# Altium footprint library Package_DIP.PcbLib: 281 footprints (part 12 of 18)
Each footprint in its own frame and in the unit in brackets; x right, y up, seen from the top. Pads: shape width x height; smd on the part's side, far side on the other; paste and mask are expansions set on the pad; w line width, h text height; cw(c..) or ccw(c..) is an arc to the next point about the centre after c.
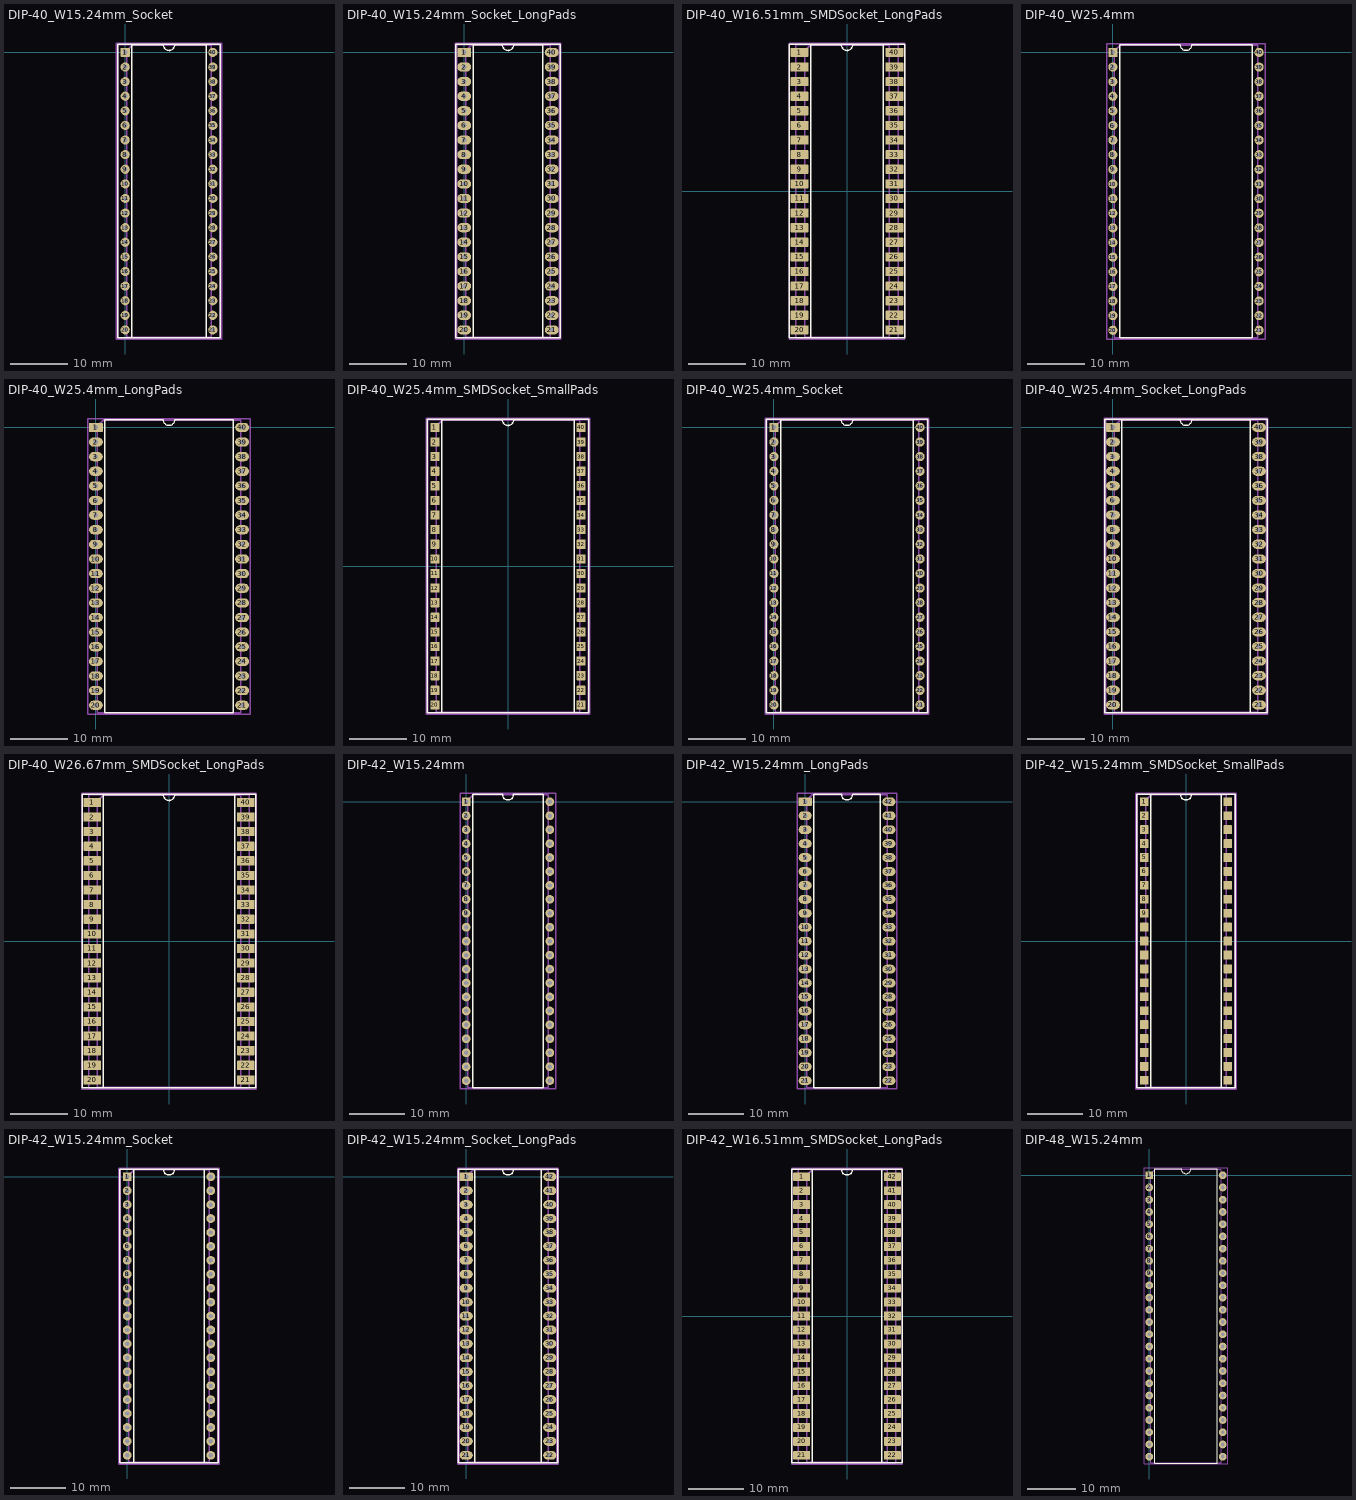
[diagram p11: the footprints below, top view; thin cyan lines are the x and y axes]

## DIP-40_W15.24mm_Socket [mm]
pads (40):
  rrect16% 1.6x1.6 hole 0.8: 1(0,0)
  round 1.6 hole 0.8: 2(0,-2.54) 3(0,-5.08) 4(0,-7.62) 5(0,-10.16) 6(0,-12.7) 7(0,-15.24) 8(0,-17.78) 9(0,-20.32) 10(0,-22.86) 11(0,-25.4) 12(0,-27.94) 13(0,-30.48) 14(0,-33.02) 15(0,-35.56) 16(0,-38.1) 17(0,-40.64) 18(0,-43.18) 19(0,-45.72) 20(0,-48.26) 21(15.24,-48.26) 22(15.24,-45.72) 23(15.24,-43.18) 24(15.24,-40.64) 25(15.24,-38.1) 26(15.24,-35.56) 27(15.24,-33.02) 28(15.24,-30.48) 29(15.24,-27.94) 30(15.24,-25.4) 31(15.24,-22.86) 32(15.24,-20.32) 33(15.24,-17.78) 34(15.24,-15.24) 35(15.24,-12.7) 36(15.24,-10.16) 37(15.24,-7.62) 38(15.24,-5.08) 39(15.24,-2.54) 40(15.24,0)
F.SilkS:
  lines w0.254: -1.33,-49.65 16.57,-49.65 16.57,1.39 -1.33,1.39 -1.33,-49.65 ; 1.16,-49.59 14.08,-49.59 14.08,1.33 8.62,1.33 cw(c7.62,1.33) 6.62,1.33 1.16,1.33 1.16,-49.59
Top Assembly:
  lines w0.254: -1.27,-49.59 16.51,-49.59 16.51,1.33 -1.27,1.33 -1.27,-49.59 ; 0.255,-49.53 14.985,-49.53 14.985,1.27 1.255,1.27 0.255,0.27 0.255,-49.53
  text "'.Designator'" at 8.46,-28.177 h1
Top Courtyard:
  lines w0.254: -1.53,-49.84 16.77,-49.84 16.77,1.59 -1.53,1.59 -1.53,-49.84
Top Designator:
  text ".Designator" at 0.002,-24.633 h1.52

## DIP-40_W15.24mm_Socket_LongPads [mm]
pads (40):
  rrect16% 2.4x1.6 hole 0.8: 1(0,0)
  rrect100% 2.4x1.6 hole 0.8: 2(0,-2.54) 3(0,-5.08) 4(0,-7.62) 5(0,-10.16) 6(0,-12.7) 7(0,-15.24) 8(0,-17.78) 9(0,-20.32) 10(0,-22.86) 11(0,-25.4) 12(0,-27.94) 13(0,-30.48) 14(0,-33.02) 15(0,-35.56) 16(0,-38.1) 17(0,-40.64) 18(0,-43.18) 19(0,-45.72) 20(0,-48.26) 21(15.24,-48.26) 22(15.24,-45.72) 23(15.24,-43.18) 24(15.24,-40.64) 25(15.24,-38.1) 26(15.24,-35.56) 27(15.24,-33.02) 28(15.24,-30.48) 29(15.24,-27.94) 30(15.24,-25.4) 31(15.24,-22.86) 32(15.24,-20.32) 33(15.24,-17.78) 34(15.24,-15.24) 35(15.24,-12.7) 36(15.24,-10.16) 37(15.24,-7.62) 38(15.24,-5.08) 39(15.24,-2.54) 40(15.24,0)
F.SilkS:
  lines w0.254: -1.44,-49.65 16.68,-49.65 16.68,1.39 -1.44,1.39 -1.44,-49.65 ; 1.56,-49.59 13.68,-49.59 13.68,1.33 8.62,1.33 cw(c7.62,1.33) 6.62,1.33 1.56,1.33 1.56,-49.59
Top Assembly:
  lines w0.254: -1.27,-49.59 16.51,-49.59 16.51,1.33 -1.27,1.33 -1.27,-49.59 ; 0.255,-49.53 14.985,-49.53 14.985,1.27 1.255,1.27 0.255,0.27 0.255,-49.53
  text "'.Designator'" at 8.46,-28.177 h1
Top Courtyard:
  lines w0.254: -1.53,-49.84 16.77,-49.84 16.77,1.59 -1.53,1.59 -1.53,-49.84
Top Designator:
  text ".Designator" at 0.002,-24.633 h1.52

## DIP-40_W16.51mm_SMDSocket_LongPads [mm]
pads (40):
  rrect16% 3.1x1.6 smd: 1(-8.255,24.13) 2(-8.255,21.59) 3(-8.255,19.05) 4(-8.255,16.51) 5(-8.255,13.97) 6(-8.255,11.43) 7(-8.255,8.89) 8(-8.255,6.35) 9(-8.255,3.81) 10(-8.255,1.27) 11(-8.255,-1.27) 12(-8.255,-3.81) 13(-8.255,-6.35) 14(-8.255,-8.89) 15(-8.255,-11.43) 16(-8.255,-13.97) 17(-8.255,-16.51) 18(-8.255,-19.05) 19(-8.255,-21.59) 20(-8.255,-24.13) 21(8.255,-24.13) 22(8.255,-21.59) 23(8.255,-19.05) 24(8.255,-16.51) 25(8.255,-13.97) 26(8.255,-11.43) 27(8.255,-8.89) 28(8.255,-6.35) 29(8.255,-3.81) 30(8.255,-1.27) 31(8.255,1.27) 32(8.255,3.81) 33(8.255,6.35) 34(8.255,8.89) 35(8.255,11.43) 36(8.255,13.97) 37(8.255,16.51) 38(8.255,19.05) 39(8.255,21.59) 40(8.255,24.13)
F.SilkS:
  lines w0.254: -10.045,-25.52 10.045,-25.52 10.045,25.52 -10.045,25.52 -10.045,-25.52 ; -6.345,-25.46 6.345,-25.46 6.345,25.46 1,25.46 cw(c0,25.46) -1,25.46 -6.345,25.46 -6.345,-25.46
Top Assembly:
  lines w0.254: -8.89,-25.46 8.89,-25.46 8.89,25.46 -8.89,25.46 -8.89,-25.46 ; -7.365,-25.4 7.365,-25.4 7.365,25.4 -6.365,25.4 -7.365,24.4 -7.365,-25.4
  text "'.Designator'" at 0.84,-4.047 h1
Top Courtyard:
  lines w0.254: -10.06,-25.71 10.06,-25.71 10.06,25.71 -10.06,25.71 -10.06,-25.71
Top Designator:
  text ".Designator" at -7.618,-0.508 h1.52

## DIP-40_W25.4mm [mm]
pads (40):
  rrect16% 1.6x1.6 hole 0.8: 1(0,0)
  round 1.6 hole 0.8: 2(0,-2.54) 3(0,-5.08) 4(0,-7.62) 5(0,-10.16) 6(0,-12.7) 7(0,-15.24) 8(0,-17.78) 9(0,-20.32) 10(0,-22.86) 11(0,-25.4) 12(0,-27.94) 13(0,-30.48) 14(0,-33.02) 15(0,-35.56) 16(0,-38.1) 17(0,-40.64) 18(0,-43.18) 19(0,-45.72) 20(0,-48.26) 21(25.4,-48.26) 22(25.4,-45.72) 23(25.4,-43.18) 24(25.4,-40.64) 25(25.4,-38.1) 26(25.4,-35.56) 27(25.4,-33.02) 28(25.4,-30.48) 29(25.4,-27.94) 30(25.4,-25.4) 31(25.4,-22.86) 32(25.4,-20.32) 33(25.4,-17.78) 34(25.4,-15.24) 35(25.4,-12.7) 36(25.4,-10.16) 37(25.4,-7.62) 38(25.4,-5.08) 39(25.4,-2.54) 40(25.4,0)
F.SilkS:
  lines w0.254: 1.16,-49.59 24.24,-49.59 24.24,1.33 13.7,1.33 cw(c12.7,1.33) 11.7,1.33 1.16,1.33 1.16,-49.59
Top Assembly:
  lines w0.254: 0.255,-49.53 25.145,-49.53 25.145,1.27 1.255,1.27 0.255,0.27 0.255,-49.53
  text "'.Designator'" at 13.54,-28.177 h1
Top Courtyard:
  lines w0.254: -1.06,-49.78 26.45,-49.78 26.45,1.53 -1.06,1.53 -1.06,-49.78
Top Designator:
  text ".Designator" at 5.077,-24.633 h1.52

## DIP-40_W25.4mm_LongPads [mm]
pads (40):
  rrect16% 2.4x1.6 hole 0.8: 1(0,0)
  rrect100% 2.4x1.6 hole 0.8: 2(0,-2.54) 3(0,-5.08) 4(0,-7.62) 5(0,-10.16) 6(0,-12.7) 7(0,-15.24) 8(0,-17.78) 9(0,-20.32) 10(0,-22.86) 11(0,-25.4) 12(0,-27.94) 13(0,-30.48) 14(0,-33.02) 15(0,-35.56) 16(0,-38.1) 17(0,-40.64) 18(0,-43.18) 19(0,-45.72) 20(0,-48.26) 21(25.4,-48.26) 22(25.4,-45.72) 23(25.4,-43.18) 24(25.4,-40.64) 25(25.4,-38.1) 26(25.4,-35.56) 27(25.4,-33.02) 28(25.4,-30.48) 29(25.4,-27.94) 30(25.4,-25.4) 31(25.4,-22.86) 32(25.4,-20.32) 33(25.4,-17.78) 34(25.4,-15.24) 35(25.4,-12.7) 36(25.4,-10.16) 37(25.4,-7.62) 38(25.4,-5.08) 39(25.4,-2.54) 40(25.4,0)
F.SilkS:
  lines w0.254: 1.56,-49.59 23.84,-49.59 23.84,1.33 13.7,1.33 cw(c12.7,1.33) 11.7,1.33 1.56,1.33 1.56,-49.59
Top Assembly:
  lines w0.254: 0.255,-49.53 25.145,-49.53 25.145,1.27 1.255,1.27 0.255,0.27 0.255,-49.53
  text "'.Designator'" at 13.54,-28.177 h1
Top Courtyard:
  lines w0.254: -1.45,-49.78 26.85,-49.78 26.85,1.53 -1.45,1.53 -1.45,-49.78
Top Designator:
  text ".Designator" at 5.082,-24.633 h1.52

## DIP-40_W25.4mm_SMDSocket_SmallPads [mm]
pads (40):
  rrect16% 1.6x1.6 smd: 1(-12.7,24.13) 2(-12.7,21.59) 3(-12.7,19.05) 4(-12.7,16.51) 5(-12.7,13.97) 6(-12.7,11.43) 7(-12.7,8.89) 8(-12.7,6.35) 9(-12.7,3.81) 10(-12.7,1.27) 11(-12.7,-1.27) 12(-12.7,-3.81) 13(-12.7,-6.35) 14(-12.7,-8.89) 15(-12.7,-11.43) 16(-12.7,-13.97) 17(-12.7,-16.51) 18(-12.7,-19.05) 19(-12.7,-21.59) 20(-12.7,-24.13) 21(12.7,-24.13) 22(12.7,-21.59) 23(12.7,-19.05) 24(12.7,-16.51) 25(12.7,-13.97) 26(12.7,-11.43) 27(12.7,-8.89) 28(12.7,-6.35) 29(12.7,-3.81) 30(12.7,-1.27) 31(12.7,1.27) 32(12.7,3.81) 33(12.7,6.35) 34(12.7,8.89) 35(12.7,11.43) 36(12.7,13.97) 37(12.7,16.51) 38(12.7,19.05) 39(12.7,21.59) 40(12.7,24.13)
F.SilkS:
  lines w0.254: -14.03,-25.52 14.03,-25.52 14.03,25.52 -14.03,25.52 -14.03,-25.52 ; -11.54,-25.46 11.54,-25.46 11.54,25.46 1,25.46 cw(c0,25.46) -1,25.46 -11.54,25.46 -11.54,-25.46
Top Assembly:
  lines w0.254: -13.97,-25.46 13.97,-25.46 13.97,25.46 -13.97,25.46 -13.97,-25.46 ; -12.445,-25.4 12.445,-25.4 12.445,25.4 -11.445,25.4 -12.445,24.4 -12.445,-25.4
  text "'.Designator'" at 0.84,-4.047 h1
Top Courtyard:
  lines w0.254: -14.22,-25.71 14.22,-25.71 14.22,25.71 -14.22,25.71 -14.22,-25.71
Top Designator:
  text ".Designator" at -7.618,-0.508 h1.52

## DIP-40_W25.4mm_Socket [mm]
pads (40):
  rrect16% 1.6x1.6 hole 0.8: 1(0,0)
  round 1.6 hole 0.8: 2(0,-2.54) 3(0,-5.08) 4(0,-7.62) 5(0,-10.16) 6(0,-12.7) 7(0,-15.24) 8(0,-17.78) 9(0,-20.32) 10(0,-22.86) 11(0,-25.4) 12(0,-27.94) 13(0,-30.48) 14(0,-33.02) 15(0,-35.56) 16(0,-38.1) 17(0,-40.64) 18(0,-43.18) 19(0,-45.72) 20(0,-48.26) 21(25.4,-48.26) 22(25.4,-45.72) 23(25.4,-43.18) 24(25.4,-40.64) 25(25.4,-38.1) 26(25.4,-35.56) 27(25.4,-33.02) 28(25.4,-30.48) 29(25.4,-27.94) 30(25.4,-25.4) 31(25.4,-22.86) 32(25.4,-20.32) 33(25.4,-17.78) 34(25.4,-15.24) 35(25.4,-12.7) 36(25.4,-10.16) 37(25.4,-7.62) 38(25.4,-5.08) 39(25.4,-2.54) 40(25.4,0)
F.SilkS:
  lines w0.254: -1.33,-49.65 26.73,-49.65 26.73,1.39 -1.33,1.39 -1.33,-49.65 ; 1.16,-49.59 24.24,-49.59 24.24,1.33 13.7,1.33 cw(c12.7,1.33) 11.7,1.33 1.16,1.33 1.16,-49.59
Top Assembly:
  lines w0.254: -1.27,-49.59 26.67,-49.59 26.67,1.33 -1.27,1.33 -1.27,-49.59 ; 0.255,-49.53 25.145,-49.53 25.145,1.27 1.255,1.27 0.255,0.27 0.255,-49.53
  text "'.Designator'" at 13.54,-28.177 h1
Top Courtyard:
  lines w0.254: -1.52,-49.84 26.92,-49.84 26.92,1.59 -1.52,1.59 -1.52,-49.84
Top Designator:
  text ".Designator" at 5.082,-24.633 h1.52

## DIP-40_W25.4mm_Socket_LongPads [mm]
pads (40):
  rrect16% 2.4x1.6 hole 0.8: 1(0,0)
  rrect100% 2.4x1.6 hole 0.8: 2(0,-2.54) 3(0,-5.08) 4(0,-7.62) 5(0,-10.16) 6(0,-12.7) 7(0,-15.24) 8(0,-17.78) 9(0,-20.32) 10(0,-22.86) 11(0,-25.4) 12(0,-27.94) 13(0,-30.48) 14(0,-33.02) 15(0,-35.56) 16(0,-38.1) 17(0,-40.64) 18(0,-43.18) 19(0,-45.72) 20(0,-48.26) 21(25.4,-48.26) 22(25.4,-45.72) 23(25.4,-43.18) 24(25.4,-40.64) 25(25.4,-38.1) 26(25.4,-35.56) 27(25.4,-33.02) 28(25.4,-30.48) 29(25.4,-27.94) 30(25.4,-25.4) 31(25.4,-22.86) 32(25.4,-20.32) 33(25.4,-17.78) 34(25.4,-15.24) 35(25.4,-12.7) 36(25.4,-10.16) 37(25.4,-7.62) 38(25.4,-5.08) 39(25.4,-2.54) 40(25.4,0)
F.SilkS:
  lines w0.254: -1.44,-49.65 26.84,-49.65 26.84,1.39 -1.44,1.39 -1.44,-49.65 ; 1.56,-49.59 23.84,-49.59 23.84,1.33 13.7,1.33 cw(c12.7,1.33) 11.7,1.33 1.56,1.33 1.56,-49.59
Top Assembly:
  lines w0.254: -1.27,-49.59 26.67,-49.59 26.67,1.33 -1.27,1.33 -1.27,-49.59 ; 0.255,-49.53 25.145,-49.53 25.145,1.27 1.255,1.27 0.255,0.27 0.255,-49.53
  text "'.Designator'" at 13.54,-28.177 h1
Top Courtyard:
  lines w0.254: -1.52,-49.84 26.92,-49.84 26.92,1.59 -1.52,1.59 -1.52,-49.84
Top Designator:
  text ".Designator" at 5.082,-24.633 h1.52

## DIP-40_W26.67mm_SMDSocket_LongPads [mm]
pads (40):
  rrect16% 3.1x1.6 smd: 1(-13.335,24.13) 2(-13.335,21.59) 3(-13.335,19.05) 4(-13.335,16.51) 5(-13.335,13.97) 6(-13.335,11.43) 7(-13.335,8.89) 8(-13.335,6.35) 9(-13.335,3.81) 10(-13.335,1.27) 11(-13.335,-1.27) 12(-13.335,-3.81) 13(-13.335,-6.35) 14(-13.335,-8.89) 15(-13.335,-11.43) 16(-13.335,-13.97) 17(-13.335,-16.51) 18(-13.335,-19.05) 19(-13.335,-21.59) 20(-13.335,-24.13) 21(13.335,-24.13) 22(13.335,-21.59) 23(13.335,-19.05) 24(13.335,-16.51) 25(13.335,-13.97) 26(13.335,-11.43) 27(13.335,-8.89) 28(13.335,-6.35) 29(13.335,-3.81) 30(13.335,-1.27) 31(13.335,1.27) 32(13.335,3.81) 33(13.335,6.35) 34(13.335,8.89) 35(13.335,11.43) 36(13.335,13.97) 37(13.335,16.51) 38(13.335,19.05) 39(13.335,21.59) 40(13.335,24.13)
F.SilkS:
  lines w0.254: -15.125,-25.52 15.125,-25.52 15.125,25.52 -15.125,25.52 -15.125,-25.52 ; -11.425,-25.46 11.425,-25.46 11.425,25.46 1,25.46 cw(c0,25.46) -1,25.46 -11.425,25.46 -11.425,-25.46
Top Assembly:
  lines w0.254: -13.97,-25.46 13.97,-25.46 13.97,25.46 -13.97,25.46 -13.97,-25.46 ; -12.445,-25.4 12.445,-25.4 12.445,25.4 -11.445,25.4 -12.445,24.4 -12.445,-25.4
  text "'.Designator'" at 0.84,-4.047 h1
Top Courtyard:
  lines w0.254: -15.14,-25.71 15.14,-25.71 15.14,25.71 -15.14,25.71 -15.14,-25.71
Top Designator:
  text ".Designator" at -7.618,-0.508 h1.52

## DIP-42_W15.24mm [mm]
pads (42):
  rrect16% 1.6x1.6 hole 0.8: 1(0,0)
  round 1.6 hole 0.8: 2(0,-2.54) 3(0,-5.08) 4(0,-7.62) 5(0,-10.16) 6(0,-12.7) 7(0,-15.24) 8(0,-17.78) 9(0,-20.32) 10(0,-22.86) 11(0,-25.4) 12(0,-27.94) 13(0,-30.48) 14(0,-33.02) 15(0,-35.56) 16(0,-38.1) 17(0,-40.64) 18(0,-43.18) 19(0,-45.72) 20(0,-48.26) 21(0,-50.8) 22(15.24,-50.8) 23(15.24,-48.26) 24(15.24,-45.72) 25(15.24,-43.18) 26(15.24,-40.64) 27(15.24,-38.1) 28(15.24,-35.56) 29(15.24,-33.02) 30(15.24,-30.48) 31(15.24,-27.94) 32(15.24,-25.4) 33(15.24,-22.86) 34(15.24,-20.32) 35(15.24,-17.78) 36(15.24,-15.24) 37(15.24,-12.7) 38(15.24,-10.16) 39(15.24,-7.62) 40(15.24,-5.08) 41(15.24,-2.54) 42(15.24,0)
F.SilkS:
  lines w0.254: 1.16,-52.13 14.08,-52.13 14.08,1.33 8.62,1.33 cw(c7.62,1.33) 6.62,1.33 1.16,1.33 1.16,-52.13
Top Assembly:
  lines w0.254: 0.255,-52.07 14.985,-52.07 14.985,1.27 1.255,1.27 0.255,0.27 0.255,-52.07
  text "'.Designator'" at 8.46,-29.447 h1
Top Courtyard:
  lines w0.254: -1.05,-52.32 16.29,-52.32 16.29,1.53 -1.05,1.53 -1.05,-52.32
Top Designator:
  text ".Designator" at 0.002,-25.903 h1.52

## DIP-42_W15.24mm_LongPads [mm]
pads (42):
  rrect16% 2.4x1.6 hole 0.8: 1(0,0)
  rrect100% 2.4x1.6 hole 0.8: 2(0,-2.54) 3(0,-5.08) 4(0,-7.62) 5(0,-10.16) 6(0,-12.7) 7(0,-15.24) 8(0,-17.78) 9(0,-20.32) 10(0,-22.86) 11(0,-25.4) 12(0,-27.94) 13(0,-30.48) 14(0,-33.02) 15(0,-35.56) 16(0,-38.1) 17(0,-40.64) 18(0,-43.18) 19(0,-45.72) 20(0,-48.26) 21(0,-50.8) 22(15.24,-50.8) 23(15.24,-48.26) 24(15.24,-45.72) 25(15.24,-43.18) 26(15.24,-40.64) 27(15.24,-38.1) 28(15.24,-35.56) 29(15.24,-33.02) 30(15.24,-30.48) 31(15.24,-27.94) 32(15.24,-25.4) 33(15.24,-22.86) 34(15.24,-20.32) 35(15.24,-17.78) 36(15.24,-15.24) 37(15.24,-12.7) 38(15.24,-10.16) 39(15.24,-7.62) 40(15.24,-5.08) 41(15.24,-2.54) 42(15.24,0)
F.SilkS:
  lines w0.254: 1.56,-52.13 13.68,-52.13 13.68,1.33 8.62,1.33 cw(c7.62,1.33) 6.62,1.33 1.56,1.33 1.56,-52.13
Top Assembly:
  lines w0.254: 0.255,-52.07 14.985,-52.07 14.985,1.27 1.255,1.27 0.255,0.27 0.255,-52.07
  text "'.Designator'" at 8.46,-29.447 h1
Top Courtyard:
  lines w0.254: -1.46,-52.32 16.69,-52.32 16.69,1.53 -1.46,1.53 -1.46,-52.32
Top Designator:
  text ".Designator" at -0.003,-25.903 h1.52

## DIP-42_W15.24mm_SMDSocket_SmallPads [mm]
pads (42):
  rrect16% 1.6x1.6 smd: 1(-7.62,25.4) 2(-7.62,22.86) 3(-7.62,20.32) 4(-7.62,17.78) 5(-7.62,15.24) 6(-7.62,12.7) 7(-7.62,10.16) 8(-7.62,7.62) 9(-7.62,5.08) 10(-7.62,2.54) 11(-7.62,0) 12(-7.62,-2.54) 13(-7.62,-5.08) 14(-7.62,-7.62) 15(-7.62,-10.16) 16(-7.62,-12.7) 17(-7.62,-15.24) 18(-7.62,-17.78) 19(-7.62,-20.32) 20(-7.62,-22.86) 21(-7.62,-25.4) 22(7.62,-25.4) 23(7.62,-22.86) 24(7.62,-20.32) 25(7.62,-17.78) 26(7.62,-15.24) 27(7.62,-12.7) 28(7.62,-10.16) 29(7.62,-7.62) 30(7.62,-5.08) 31(7.62,-2.54) 32(7.62,0) 33(7.62,2.54) 34(7.62,5.08) 35(7.62,7.62) 36(7.62,10.16) 37(7.62,12.7) 38(7.62,15.24) 39(7.62,17.78) 40(7.62,20.32) 41(7.62,22.86) 42(7.62,25.4)
F.SilkS:
  lines w0.254: -8.95,-26.79 8.95,-26.79 8.95,26.79 -8.95,26.79 -8.95,-26.79 ; -6.46,-26.73 6.46,-26.73 6.46,26.73 1,26.73 cw(c0,26.73) -1,26.73 -6.46,26.73 -6.46,-26.73
Top Assembly:
  lines w0.254: -8.89,-26.73 8.89,-26.73 8.89,26.73 -8.89,26.73 -8.89,-26.73 ; -7.365,-26.67 7.365,-26.67 7.365,26.67 -6.365,26.67 -7.365,25.67 -7.365,-26.67
  text "'.Designator'" at 0.84,-4.047 h1
Top Courtyard:
  lines w0.254: -9.14,-26.98 9.14,-26.98 9.14,26.98 -9.14,26.98 -9.14,-26.98
Top Designator:
  text ".Designator" at -7.618,-0.508 h1.52

## DIP-42_W15.24mm_Socket [mm]
pads (42):
  rrect16% 1.6x1.6 hole 0.8: 1(0,0)
  round 1.6 hole 0.8: 2(0,-2.54) 3(0,-5.08) 4(0,-7.62) 5(0,-10.16) 6(0,-12.7) 7(0,-15.24) 8(0,-17.78) 9(0,-20.32) 10(0,-22.86) 11(0,-25.4) 12(0,-27.94) 13(0,-30.48) 14(0,-33.02) 15(0,-35.56) 16(0,-38.1) 17(0,-40.64) 18(0,-43.18) 19(0,-45.72) 20(0,-48.26) 21(0,-50.8) 22(15.24,-50.8) 23(15.24,-48.26) 24(15.24,-45.72) 25(15.24,-43.18) 26(15.24,-40.64) 27(15.24,-38.1) 28(15.24,-35.56) 29(15.24,-33.02) 30(15.24,-30.48) 31(15.24,-27.94) 32(15.24,-25.4) 33(15.24,-22.86) 34(15.24,-20.32) 35(15.24,-17.78) 36(15.24,-15.24) 37(15.24,-12.7) 38(15.24,-10.16) 39(15.24,-7.62) 40(15.24,-5.08) 41(15.24,-2.54) 42(15.24,0)
F.SilkS:
  lines w0.254: -1.33,-52.19 16.57,-52.19 16.57,1.39 -1.33,1.39 -1.33,-52.19 ; 1.16,-52.13 14.08,-52.13 14.08,1.33 8.62,1.33 cw(c7.62,1.33) 6.62,1.33 1.16,1.33 1.16,-52.13
Top Assembly:
  lines w0.254: -1.27,-52.13 16.51,-52.13 16.51,1.33 -1.27,1.33 -1.27,-52.13 ; 0.255,-52.07 14.985,-52.07 14.985,1.27 1.255,1.27 0.255,0.27 0.255,-52.07
  text "'.Designator'" at 8.46,-29.447 h1
Top Courtyard:
  lines w0.254: -1.53,-52.38 16.77,-52.38 16.77,1.59 -1.53,1.59 -1.53,-52.38
Top Designator:
  text ".Designator" at 0.002,-25.903 h1.52

## DIP-42_W15.24mm_Socket_LongPads [mm]
pads (42):
  rrect16% 2.4x1.6 hole 0.8: 1(0,0)
  rrect100% 2.4x1.6 hole 0.8: 2(0,-2.54) 3(0,-5.08) 4(0,-7.62) 5(0,-10.16) 6(0,-12.7) 7(0,-15.24) 8(0,-17.78) 9(0,-20.32) 10(0,-22.86) 11(0,-25.4) 12(0,-27.94) 13(0,-30.48) 14(0,-33.02) 15(0,-35.56) 16(0,-38.1) 17(0,-40.64) 18(0,-43.18) 19(0,-45.72) 20(0,-48.26) 21(0,-50.8) 22(15.24,-50.8) 23(15.24,-48.26) 24(15.24,-45.72) 25(15.24,-43.18) 26(15.24,-40.64) 27(15.24,-38.1) 28(15.24,-35.56) 29(15.24,-33.02) 30(15.24,-30.48) 31(15.24,-27.94) 32(15.24,-25.4) 33(15.24,-22.86) 34(15.24,-20.32) 35(15.24,-17.78) 36(15.24,-15.24) 37(15.24,-12.7) 38(15.24,-10.16) 39(15.24,-7.62) 40(15.24,-5.08) 41(15.24,-2.54) 42(15.24,0)
F.SilkS:
  lines w0.254: -1.44,-52.19 16.68,-52.19 16.68,1.39 -1.44,1.39 -1.44,-52.19 ; 1.56,-52.13 13.68,-52.13 13.68,1.33 8.62,1.33 cw(c7.62,1.33) 6.62,1.33 1.56,1.33 1.56,-52.13
Top Assembly:
  lines w0.254: -1.27,-52.13 16.51,-52.13 16.51,1.33 -1.27,1.33 -1.27,-52.13 ; 0.255,-52.07 14.985,-52.07 14.985,1.27 1.255,1.27 0.255,0.27 0.255,-52.07
  text "'.Designator'" at 8.46,-29.447 h1
Top Courtyard:
  lines w0.254: -1.53,-52.38 16.77,-52.38 16.77,1.59 -1.53,1.59 -1.53,-52.38
Top Designator:
  text ".Designator" at 0.002,-25.903 h1.52

## DIP-42_W16.51mm_SMDSocket_LongPads [mm]
pads (42):
  rrect16% 3.1x1.6 smd: 1(-8.255,25.4) 2(-8.255,22.86) 3(-8.255,20.32) 4(-8.255,17.78) 5(-8.255,15.24) 6(-8.255,12.7) 7(-8.255,10.16) 8(-8.255,7.62) 9(-8.255,5.08) 10(-8.255,2.54) 11(-8.255,0) 12(-8.255,-2.54) 13(-8.255,-5.08) 14(-8.255,-7.62) 15(-8.255,-10.16) 16(-8.255,-12.7) 17(-8.255,-15.24) 18(-8.255,-17.78) 19(-8.255,-20.32) 20(-8.255,-22.86) 21(-8.255,-25.4) 22(8.255,-25.4) 23(8.255,-22.86) 24(8.255,-20.32) 25(8.255,-17.78) 26(8.255,-15.24) 27(8.255,-12.7) 28(8.255,-10.16) 29(8.255,-7.62) 30(8.255,-5.08) 31(8.255,-2.54) 32(8.255,0) 33(8.255,2.54) 34(8.255,5.08) 35(8.255,7.62) 36(8.255,10.16) 37(8.255,12.7) 38(8.255,15.24) 39(8.255,17.78) 40(8.255,20.32) 41(8.255,22.86) 42(8.255,25.4)
F.SilkS:
  lines w0.254: -10.045,-26.79 10.045,-26.79 10.045,26.79 -10.045,26.79 -10.045,-26.79 ; -6.345,-26.73 6.345,-26.73 6.345,26.73 1,26.73 cw(c0,26.73) -1,26.73 -6.345,26.73 -6.345,-26.73
Top Assembly:
  lines w0.254: -8.89,-26.73 8.89,-26.73 8.89,26.73 -8.89,26.73 -8.89,-26.73 ; -7.365,-26.67 7.365,-26.67 7.365,26.67 -6.365,26.67 -7.365,25.67 -7.365,-26.67
  text "'.Designator'" at 0.84,-4.047 h1
Top Courtyard:
  lines w0.254: -10.06,-26.98 10.06,-26.98 10.06,26.98 -10.06,26.98 -10.06,-26.98
Top Designator:
  text ".Designator" at -7.618,-0.508 h1.52

## DIP-48_W15.24mm [mm]
pads (48):
  rrect16% 1.6x1.6 hole 0.8: 1(0,0)
  round 1.6 hole 0.8: 2(0,-2.54) 3(0,-5.08) 4(0,-7.62) 5(0,-10.16) 6(0,-12.7) 7(0,-15.24) 8(0,-17.78) 9(0,-20.32) 10(0,-22.86) 11(0,-25.4) 12(0,-27.94) 13(0,-30.48) 14(0,-33.02) 15(0,-35.56) 16(0,-38.1) 17(0,-40.64) 18(0,-43.18) 19(0,-45.72) 20(0,-48.26) 21(0,-50.8) 22(0,-53.34) 23(0,-55.88) 24(0,-58.42) 25(15.24,-58.42) 26(15.24,-55.88) 27(15.24,-53.34) 28(15.24,-50.8) 29(15.24,-48.26) 30(15.24,-45.72) 31(15.24,-43.18) 32(15.24,-40.64) 33(15.24,-38.1) 34(15.24,-35.56) 35(15.24,-33.02) 36(15.24,-30.48) 37(15.24,-27.94) 38(15.24,-25.4) 39(15.24,-22.86) 40(15.24,-20.32) 41(15.24,-17.78) 42(15.24,-15.24) 43(15.24,-12.7) 44(15.24,-10.16) 45(15.24,-7.62) 46(15.24,-5.08) 47(15.24,-2.54) 48(15.24,0)
F.SilkS:
  lines w0.254: 1.16,-59.75 14.08,-59.75 14.08,1.33 8.62,1.33 cw(c7.62,1.33) 6.62,1.33 1.16,1.33 1.16,-59.75
Top Assembly:
  lines w0.254: 0.255,-59.69 14.985,-59.69 14.985,1.27 1.255,1.27 0.255,0.27 0.255,-59.69
  text "'.Designator'" at 8.46,-33.257 h1
Top Courtyard:
  lines w0.254: -1.05,-59.94 16.29,-59.94 16.29,1.53 -1.05,1.53 -1.05,-59.94
Top Designator:
  text ".Designator" at 0.002,-29.713 h1.52